# EAGLE library part FPC-48WAY (library pimoroni-fpc)
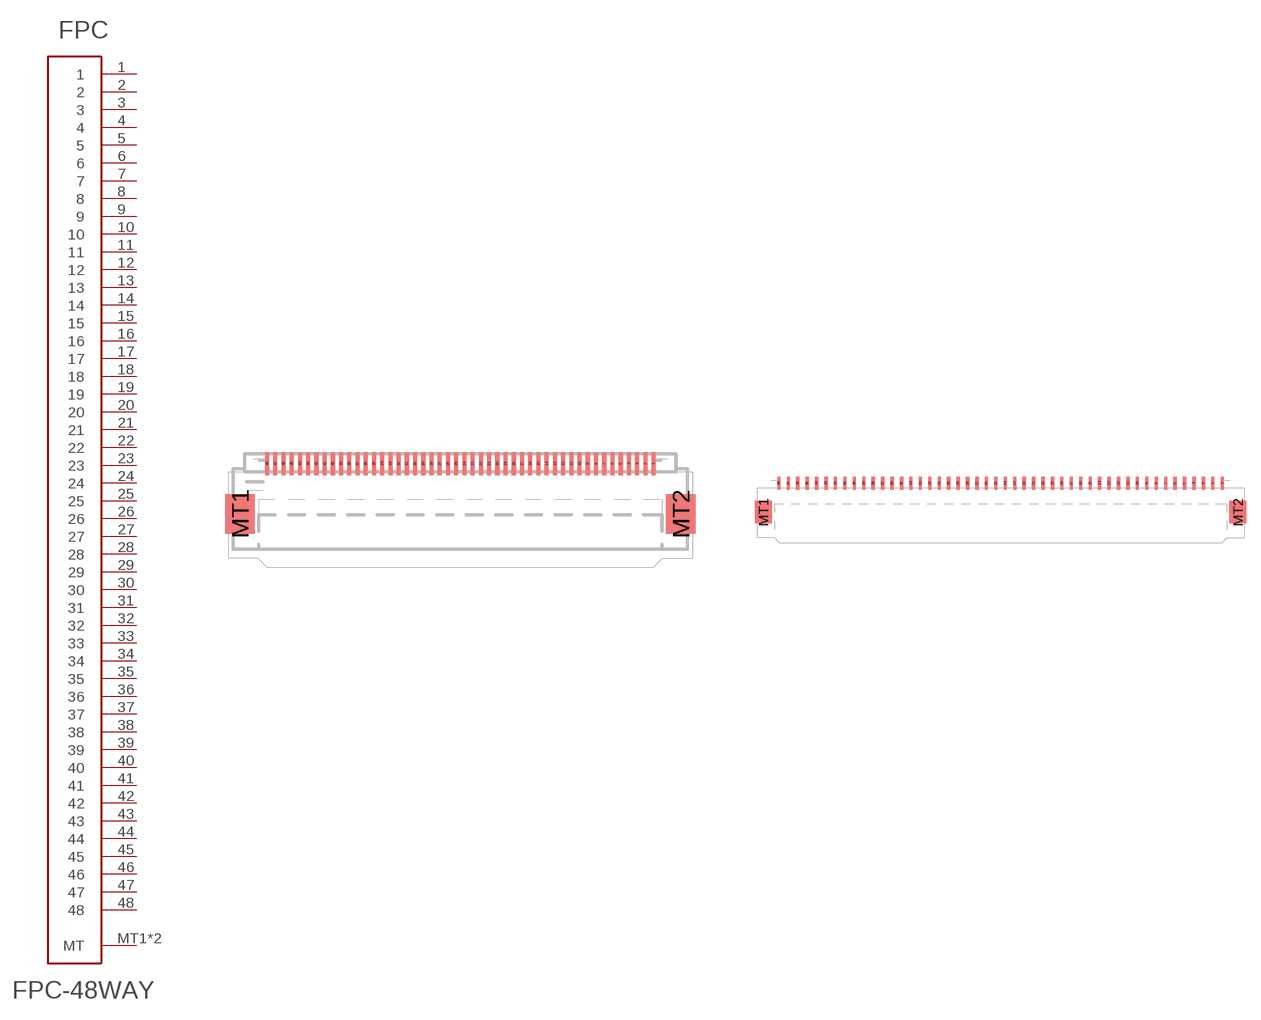
[diagram p43: symbol with the pads of FPC-0.5MM-48WAY; footprints FPC-0.5MM-48WAY, FPC-1.0MM-48WAY]

Designator prefix FPC

## FPC-48WAY0.5  [FPC-0.5MM-48WAY]
1  1
2  2
3  3
4  4
5  5
6  6
7  7
8  8
9  9
10  10
11  11
12  12
13  13
14  14
15  15
16  16
17  17
18  18
19  19
20  20
21  21
22  22
23  23
24  24
25  25
26  26
27  27
28  28
29  29
30  30
31  31
32  32
33  33
34  34
35  35
36  36
37  37
38  38
39  39
40  40
41  41
42  42
43  43
44  44
45  45
46  46
47  47
48  48
MT1  MT
MT2  MT

## FPC-48WAY1.0  [FPC-1.0MM-48WAY]
Pads as for FPC-0.5MM-48WAY

## Footprint FPC-0.5MM-48WAY (pad centres in mm)
smd 0.25 x 1.4: 1 11.75,0.7; 2 11.25,0.7; 3 10.75,0.7; 4 10.25,0.7; 5 9.75,0.7; 6 9.25,0.7; 7 8.75,0.7; 8 8.25,0.7; 9 7.75,0.7; 10 7.25,0.7; 11 6.75,0.7; 12 6.25,0.7; 13 5.75,0.7; 14 5.25,0.7; 15 4.75,0.7; 16 4.25,0.7; 17 3.75,0.7; 18 3.25,0.7; 19 2.75,0.7; 20 2.25,0.7; 21 1.75,0.7; 22 1.25,0.7; 23 0.75,0.7; 24 0.25,0.7; 25 -0.25,0.7; 26 -0.75,0.7; 27 -1.25,0.7; 28 -1.75,0.7; 29 -2.25,0.7; 30 -2.75,0.7; 31 -3.25,0.7; 32 -3.75,0.7; 33 -4.25,0.7; 34 -4.75,0.7; 35 -5.25,0.7; 36 -5.75,0.7; 37 -6.25,0.7; 38 -6.75,0.7; 39 -7.25,0.7; 40 -7.75,0.7; 41 -8.25,0.7; 42 -8.75,0.7; 43 -9.25,0.7; 44 -9.75,0.7; 45 -10.25,0.7; 46 -10.75,0.7; 47 -11.25,0.7; 48 -11.75,0.7
smd 1.8 x 2.4: MT1 -13.4,-2.35; MT2 13.4,-2.35

## Footprint FPC-1.0MM-48WAY (pad centres in mm)
smd 0.35 x 1.4: 1 23.5,0.7; 2 22.5,0.7; 3 21.5,0.7; 4 20.5,0.7; 5 19.5,0.7; 6 18.5,0.7; 7 17.5,0.7; 8 16.5,0.7; 9 15.5,0.7; 10 14.5,0.7; 11 13.5,0.7; 12 12.5,0.7; 13 11.5,0.7; 14 10.5,0.7; 15 9.5,0.7; 16 8.5,0.7; 17 7.5,0.7; 18 6.5,0.7; 19 5.5,0.7; 20 4.5,0.7; 21 3.5,0.7; 22 2.5,0.7; 23 1.5,0.7; 24 0.5,0.7; 25 -0.5,0.7; 26 -1.5,0.7; 27 -2.5,0.7; 28 -3.5,0.7; 29 -4.5,0.7; 30 -5.5,0.7; 31 -6.5,0.7; 32 -7.5,0.7; 33 -8.5,0.7; 34 -9.5,0.7; 35 -10.5,0.7; 36 -11.5,0.7; 37 -12.5,0.7; 38 -13.5,0.7; 39 -14.5,0.7; 40 -15.5,0.7; 41 -16.5,0.7; 42 -17.5,0.7; 43 -18.5,0.7; 44 -19.5,0.7; 45 -20.5,0.7; 46 -21.5,0.7; 47 -22.5,0.7; 48 -23.5,0.7
smd 1.8 x 2.4: MT1 -25.15,-2.35; MT2 25.15,-2.35